# Altium schematic symbol library SN65176BDR.SchLib: 1 symbol
Pins are listed as number, name and electrical type; pins without a type are passive.

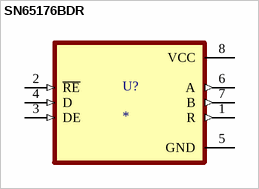
[diagram p0: symbol SN65176BDR]

## SN65176BDR
designator U?
Differential Bus Transceiver; MF: Texas Instruments; MP: SN65176BDR; SnapEDA_Link: https://www.snapeda.com/parts/SN65176BDR/Texas+Instruments/view-part/?ref=snap; Package: SOIC-8 Texas Instruments; Value: *; Check_prices: https://www.snapeda.com/parts/SN65176BDR/Texas+Instruments/view-part/?ref=eda
footprint SOIC127P599X175-8N
pins: 1 R (out), 2 ~{RE} (in), 3 DE (in), 4 D (in), 5 GND (power), 6 A (out), 7 B (out), 8 VCC (power)